# EAGLE library part OPT3001 (library opt3001)
OPT3001 Ambient Light Sensor Texas Instruments
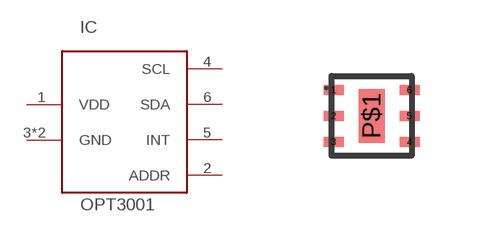
[diagram p0: symbol with the pads of OPT3001; footprint OPT3001]

Designator prefix IC

## OPT3001  [OPT3001]
1  VDD  pwr
2  ADDR
3  GND  pwr
4  SCL
5  INT
6  SDA
P$1  GND  pwr

## Footprint OPT3001 (pad centres in mm)
smd 0.5 x 0.25: 1 -0.95,0.65; 2 -0.95,0; 3 -0.95,-0.65; 4 0.95,-0.65; 5 0.95,0; 6 0.95,0.65
smd 0.65 x 1.35: P$1 0,0